# Altium integrated library Wurth_Elektronik_Passive_rev16a.IntLib: 1143 symbols (part 15 of 28)
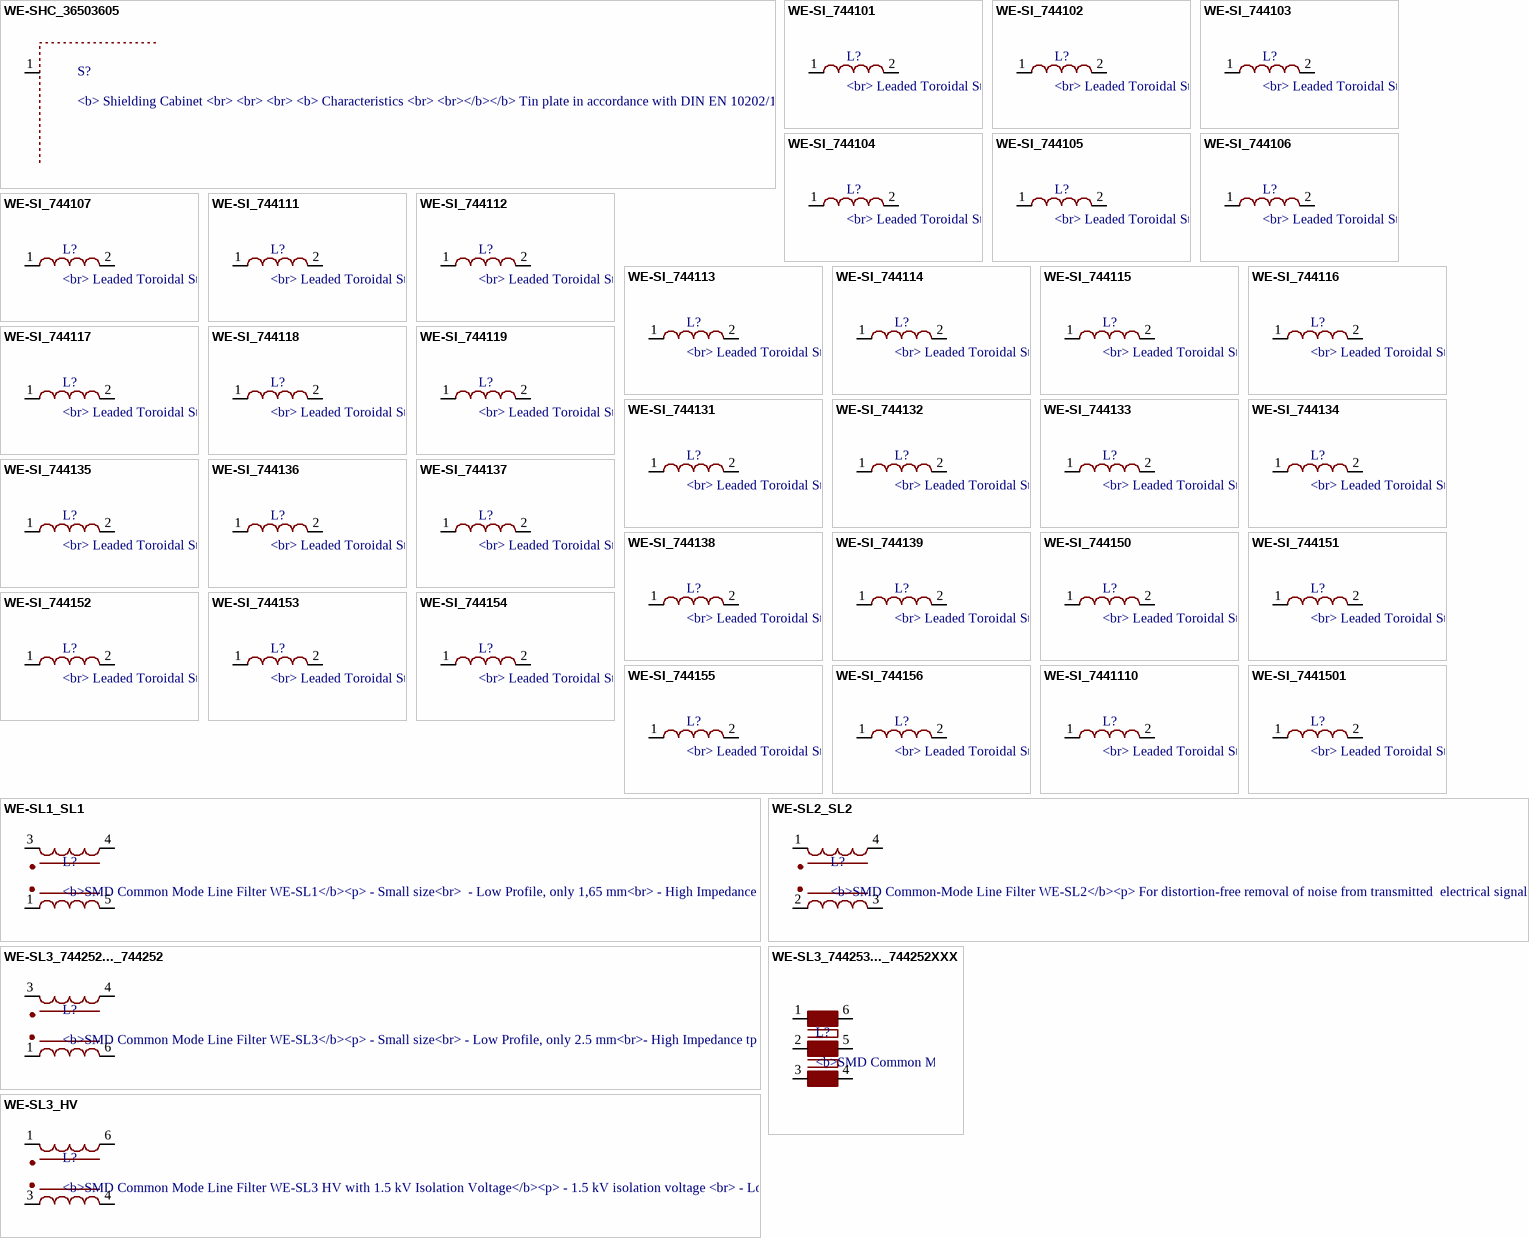
[diagram p72: symbols WE-SHC_36503605 to WE-SL3_HV]

## WE-SI_744151
designator L?, comment <br> Leaded Toroidal Storage Choke / <br> / <br> / <br><b> Characteristics / <br> / <br></b></b> Low magnetic stray field / <br> / <br> Low leakage and minimal noise because of the toroidal core made of iron powder / <br> / <br> Available for rated currents 0.5 A, 1 A, 3 A and 5 A / <br> / <br> Custom designs on request / <br> / <br> / <br><b> Applications / <br> / <br></b> Perfectly suitable for switching regulators from / <br> – Texas Instruments (LM) / <br> – Linear Technology (LT) / <br>– Maxim / <br> / <br> Used for example in switching power supplies and voltage transformers / <br> / <br> Switching regulators up to 100 kHz / <br> / <br> / <br> / <br><a href="http://katalog.we-online.de/media/images/eisos/IndSI_pf2.jpg" title="Enlarge picture"> / <img src="http://katalog.we-online.de/media/images/eisos/IndSI_pf2.jpg" width="320"></a><p> / Details see: <a href="http://katalog.we-online.de/en/pbs/WE-SI/744101">http://katalog.we-online.de/en/pbs/WE-SI/744101</a><p> / </b>Updated  by  Dan Xu 2014-06-10<br> / </b>2014 (C) Wurth Elektronik
footprint WE-SI_744151
pins: 1, 2

## WE-SI_744152
designator L?, comment <br> Leaded Toroidal Storage Choke / <br> / <br> / <br><b> Characteristics / <br> / <br></b></b> Low magnetic stray field / <br> / <br> Low leakage and minimal noise because of the toroidal core made of iron powder / <br> / <br> Available for rated currents 0.5 A, 1 A, 3 A and 5 A / <br> / <br> Custom designs on request / <br> / <br> / <br><b> Applications / <br> / <br></b> Perfectly suitable for switching regulators from / <br> – Texas Instruments (LM) / <br> – Linear Technology (LT) / <br>– Maxim / <br> / <br> Used for example in switching power supplies and voltage transformers / <br> / <br> Switching regulators up to 100 kHz / <br> / <br> / <br> / <br><a href="http://katalog.we-online.de/media/images/eisos/IndSI_pf2.jpg" title="Enlarge picture"> / <img src="http://katalog.we-online.de/media/images/eisos/IndSI_pf2.jpg" width="320"></a><p> / Details see: <a href="http://katalog.we-online.de/en/pbs/WE-SI/744101">http://katalog.we-online.de/en/pbs/WE-SI/744101</a><p> / </b>Updated  by  Dan Xu 2014-06-10<br> / </b>2014 (C) Wurth Elektronik
footprint WE-SI_744152
pins: 1, 2

## WE-SI_744153
designator L?, comment <br> Leaded Toroidal Storage Choke / <br> / <br> / <br><b> Characteristics / <br> / <br></b></b> Low magnetic stray field / <br> / <br> Low leakage and minimal noise because of the toroidal core made of iron powder / <br> / <br> Available for rated currents 0.5 A, 1 A, 3 A and 5 A / <br> / <br> Custom designs on request / <br> / <br> / <br><b> Applications / <br> / <br></b> Perfectly suitable for switching regulators from / <br> – Texas Instruments (LM) / <br> – Linear Technology (LT) / <br>– Maxim / <br> / <br> Used for example in switching power supplies and voltage transformers / <br> / <br> Switching regulators up to 100 kHz / <br> / <br> / <br> / <br><a href="http://katalog.we-online.de/media/images/eisos/IndSI_pf2.jpg" title="Enlarge picture"> / <img src="http://katalog.we-online.de/media/images/eisos/IndSI_pf2.jpg" width="320"></a><p> / Details see: <a href="http://katalog.we-online.de/en/pbs/WE-SI/744101">http://katalog.we-online.de/en/pbs/WE-SI/744101</a><p> / </b>Updated  by  Dan Xu 2014-06-10<br> / </b>2014 (C) Wurth Elektronik
footprint WE-SI_744153
pins: 1, 2

## WE-SI_744154
designator L?, comment <br> Leaded Toroidal Storage Choke / <br> / <br> / <br><b> Characteristics / <br> / <br></b></b> Low magnetic stray field / <br> / <br> Low leakage and minimal noise because of the toroidal core made of iron powder / <br> / <br> Available for rated currents 0.5 A, 1 A, 3 A and 5 A / <br> / <br> Custom designs on request / <br> / <br> / <br><b> Applications / <br> / <br></b> Perfectly suitable for switching regulators from / <br> – Texas Instruments (LM) / <br> – Linear Technology (LT) / <br>– Maxim / <br> / <br> Used for example in switching power supplies and voltage transformers / <br> / <br> Switching regulators up to 100 kHz / <br> / <br> / <br> / <br><a href="http://katalog.we-online.de/media/images/eisos/IndSI_pf2.jpg" title="Enlarge picture"> / <img src="http://katalog.we-online.de/media/images/eisos/IndSI_pf2.jpg" width="320"></a><p> / Details see: <a href="http://katalog.we-online.de/en/pbs/WE-SI/744101">http://katalog.we-online.de/en/pbs/WE-SI/744101</a><p> / </b>Updated  by  Dan Xu 2014-06-10<br> / </b>2014 (C) Wurth Elektronik
footprint WE-SI_744154
pins: 1, 2

## WE-SI_744155
designator L?, comment <br> Leaded Toroidal Storage Choke / <br> / <br> / <br><b> Characteristics / <br> / <br></b></b> Low magnetic stray field / <br> / <br> Low leakage and minimal noise because of the toroidal core made of iron powder / <br> / <br> Available for rated currents 0.5 A, 1 A, 3 A and 5 A / <br> / <br> Custom designs on request / <br> / <br> / <br><b> Applications / <br> / <br></b> Perfectly suitable for switching regulators from / <br> – Texas Instruments (LM) / <br> – Linear Technology (LT) / <br>– Maxim / <br> / <br> Used for example in switching power supplies and voltage transformers / <br> / <br> Switching regulators up to 100 kHz / <br> / <br> / <br> / <br><a href="http://katalog.we-online.de/media/images/eisos/IndSI_pf2.jpg" title="Enlarge picture"> / <img src="http://katalog.we-online.de/media/images/eisos/IndSI_pf2.jpg" width="320"></a><p> / Details see: <a href="http://katalog.we-online.de/en/pbs/WE-SI/744101">http://katalog.we-online.de/en/pbs/WE-SI/744101</a><p> / </b>Updated  by  Dan Xu 2014-06-10<br> / </b>2014 (C) Wurth Elektronik
footprint WE-SI_744155
pins: 1, 2

## WE-SI_744156
designator L?, comment <br> Leaded Toroidal Storage Choke / <br> / <br> / <br><b> Characteristics / <br> / <br></b></b> Low magnetic stray field / <br> / <br> Low leakage and minimal noise because of the toroidal core made of iron powder / <br> / <br> Available for rated currents 0.5 A, 1 A, 3 A and 5 A / <br> / <br> Custom designs on request / <br> / <br> / <br><b> Applications / <br> / <br></b> Perfectly suitable for switching regulators from / <br> – Texas Instruments (LM) / <br> – Linear Technology (LT) / <br>– Maxim / <br> / <br> Used for example in switching power supplies and voltage transformers / <br> / <br> Switching regulators up to 100 kHz / <br> / <br> / <br> / <br><a href="http://katalog.we-online.de/media/images/eisos/IndSI_pf2.jpg" title="Enlarge picture"> / <img src="http://katalog.we-online.de/media/images/eisos/IndSI_pf2.jpg" width="320"></a><p> / Details see: <a href="http://katalog.we-online.de/en/pbs/WE-SI/744101">http://katalog.we-online.de/en/pbs/WE-SI/744101</a><p> / </b>Updated  by  Dan Xu 2014-06-10<br> / </b>2014 (C) Wurth Elektronik
footprint WE-SI_744156
pins: 1, 2

## WE-SI_7441110
designator L?, comment <br> Leaded Toroidal Storage Choke / <br> / <br> / <br><b> Characteristics / <br> / <br></b></b> Low magnetic stray field / <br> / <br> Low leakage and minimal noise because of the toroidal core made of iron powder / <br> / <br> Available for rated currents 0.5 A, 1 A, 3 A and 5 A / <br> / <br> Custom designs on request / <br> / <br> / <br><b> Applications / <br> / <br></b> Perfectly suitable for switching regulators from / <br> – Texas Instruments (LM) / <br> – Linear Technology (LT) / <br>– Maxim / <br> / <br> Used for example in switching power supplies and voltage transformers / <br> / <br> Switching regulators up to 100 kHz / <br> / <br> / <br> / <br><a href="http://katalog.we-online.de/media/images/eisos/IndSI_pf2.jpg" title="Enlarge picture"> / <img src="http://katalog.we-online.de/media/images/eisos/IndSI_pf2.jpg" width="320"></a><p> / Details see: <a href="http://katalog.we-online.de/en/pbs/WE-SI/744101">http://katalog.we-online.de/en/pbs/WE-SI/744101</a><p> / </b>Updated  by  Dan Xu 2014-06-10<br> / </b>2014 (C) Wurth Elektronik
footprint WE-SI_7441110
pins: 1, 2

## WE-SI_7441501
designator L?, comment <br> Leaded Toroidal Storage Choke / <br> / <br> / <br><b> Characteristics / <br> / <br></b></b> Low magnetic stray field / <br> / <br> Low leakage and minimal noise because of the toroidal core made of iron powder / <br> / <br> Available for rated currents 0.5 A, 1 A, 3 A and 5 A / <br> / <br> Custom designs on request / <br> / <br> / <br><b> Applications / <br> / <br></b> Perfectly suitable for switching regulators from / <br> – Texas Instruments (LM) / <br> – Linear Technology (LT) / <br>– Maxim / <br> / <br> Used for example in switching power supplies and voltage transformers / <br> / <br> Switching regulators up to 100 kHz / <br> / <br> / <br> / <br><a href="http://katalog.we-online.de/media/images/eisos/IndSI_pf2.jpg" title="Enlarge picture"> / <img src="http://katalog.we-online.de/media/images/eisos/IndSI_pf2.jpg" width="320"></a><p> / Details see: <a href="http://katalog.we-online.de/en/pbs/WE-SI/744101">http://katalog.we-online.de/en/pbs/WE-SI/744101</a><p> / </b>Updated  by  Dan Xu 2014-06-10<br> / </b>2014 (C) Wurth Elektronik
footprint WE-SI_7441501
pins: 1, 2

## WE-SL1_SL1
designator L?, comment <b>SMD Common Mode Line Filter WE-SL1</b><p> / - Small size<br> / - Low Profile, only 1,65 mm<br> / - High Impedance up to 2000 ohm<br> / - High Current up to 300mA <br> / - Low leakage inductance<br><br> / -- USB<br> / -- CAN<br> / -- Firewire<br> / -- Data Lines<br> / -- Power Lines<br> / <br><a href="http://katalog.we-online.de/media/images/eisos/IndSL1_pf2.jpg" title="Enlarge picture"> / <img src="http://katalog.we-online.de/media/images/eisos/IndSL1_pf2.jpg" width="320"></a><p> / Details see: <a href="http://katalog.we-online.de/en/pbs/WE-SL1?">http://katalog.we-online.de/en/pbs/WE-SL1?1</a><p> / </b>Updated  by  Dan Xu 2014-07-11<br> / </b>2014 (C) Würth Elektronik
footprint WE-SL1
pins: 1 4, 3 1, 4 2, 5 3

## WE-SL2_SL2
designator L?, comment <b>SMD Common-Mode Line Filter WE-SL2</b><p> / For distortion-free removal of noise from transmitted / electrical signals<br> / - Double current-compensated choke<br> / - Offering a wide band width with the core materials NiZn/MnZn<br><br> / -- Current compensated choke for data and signal lines<br> / -- Power supply systems<br> / -- Filter for measurement signals<br> / -- CAN / <br><a href="http://katalog.we-online.de/media/images/eisos/IndSL2_pf2.jpg" title="Enlarge picture"> / <img src="http://katalog.we-online.de/media/images/eisos/IndSL2_pf2.jpg" width="320"></a><p> / Details see: <a href="http://katalog.we-online.de/en/pbs/WE-SL2?">http://katalog.we-online.de/en/pbs/WE-SL2?</a><p> / </b>Updated  by  Dan Xu 2014-07-11<br> / </b>2014 (C) Würth Elektronik
footprint WE-SL2
pins: 1, 2 4, 3, 4 2

## WE-SL3_744252..._744252
designator L?, comment <b>SMD Common Mode Line Filter WE-SL3</b><p> / - Small size<br> - Low Profile, only 2.5 mm<br>- High Impedance tp to 5000 ohm<br>- High Current up to 700mA <br> / - Low leakage inductance<p> / - USB<br> / - CAN<br> / -  Firewire<br> / - Data Lines<br> / - Power Lines<br> / <br><a href="http://katalog.we-online.de/media/images/eisos/IndSL3_pf2.jpg" title="Enlarge picture"> / <img src="http://katalog.we-online.de/media/images/eisos/IndSL3_pf2.jpg" width="320"></a><p> / Details see: <a href="http://katalog.we-online.de/en/pbs/WE-SL3?">http://katalog.we-online.de/en/pbs/WE-SL3?</a><p> / </b>Updated  by  Dan Xu 2014-07-11<br> / </b>2014 (C) Würth Elektronik
footprint WE-SL3_744252...
pins: 1 4, 3 1, 4 2, 6 3

## WE-SL3_744253..._744252XXX
designator L?, comment <b>SMD Common Mode Line Filter WE-SL3</b><p> / - Small size<br> - Low Profile, only 2.5 mm<br>- High Impedance tp to 5000 ohm<br>- High Current up to 700mA <br> / - Low leakage inductance<p> / - USB<br> / - CAN<br> / -  Firewire<br> / - Data Lines<br> / - Power Lines<br> / <br><a href="http://katalog.we-online.de/media/images/eisos/IndSL3_pf2.jpg" title="Enlarge picture"> / <img src="http://katalog.we-online.de/media/images/eisos/IndSL3_pf2.jpg" width="320"></a><p> / Details see: <a href="http://katalog.we-online.de/en/pbs/WE-SL3?">http://katalog.we-online.de/en/pbs/WE-SL3?</a><p> / </b>Updated  by  Dan Xu 2014-07-11<br> / </b>2014 (C) Würth Elektronik
footprint WE-SL3_744253...
pins: 1, 2, 3, 4, 5, 6

## WE-SL3_HV
designator L?, comment <b>SMD Common Mode Line Filter WE-SL3 HV with 1.5 kV Isolation Voltage</b><p> / - 1.5 kV isolation voltage <br> / - Low profile<br> / - Small sinze<br> / - Excellent attenuation characteristics<br><br> / -- 10/100/1000 Base-T<br> / -- xDSL<br> / -- Modem<br> / -- T1/E1<br> / -- ISDN<br> / -- For TNV-circuits
footprint WE-SL3_HV
pins: 1, 3 4, 4 3, 6 2

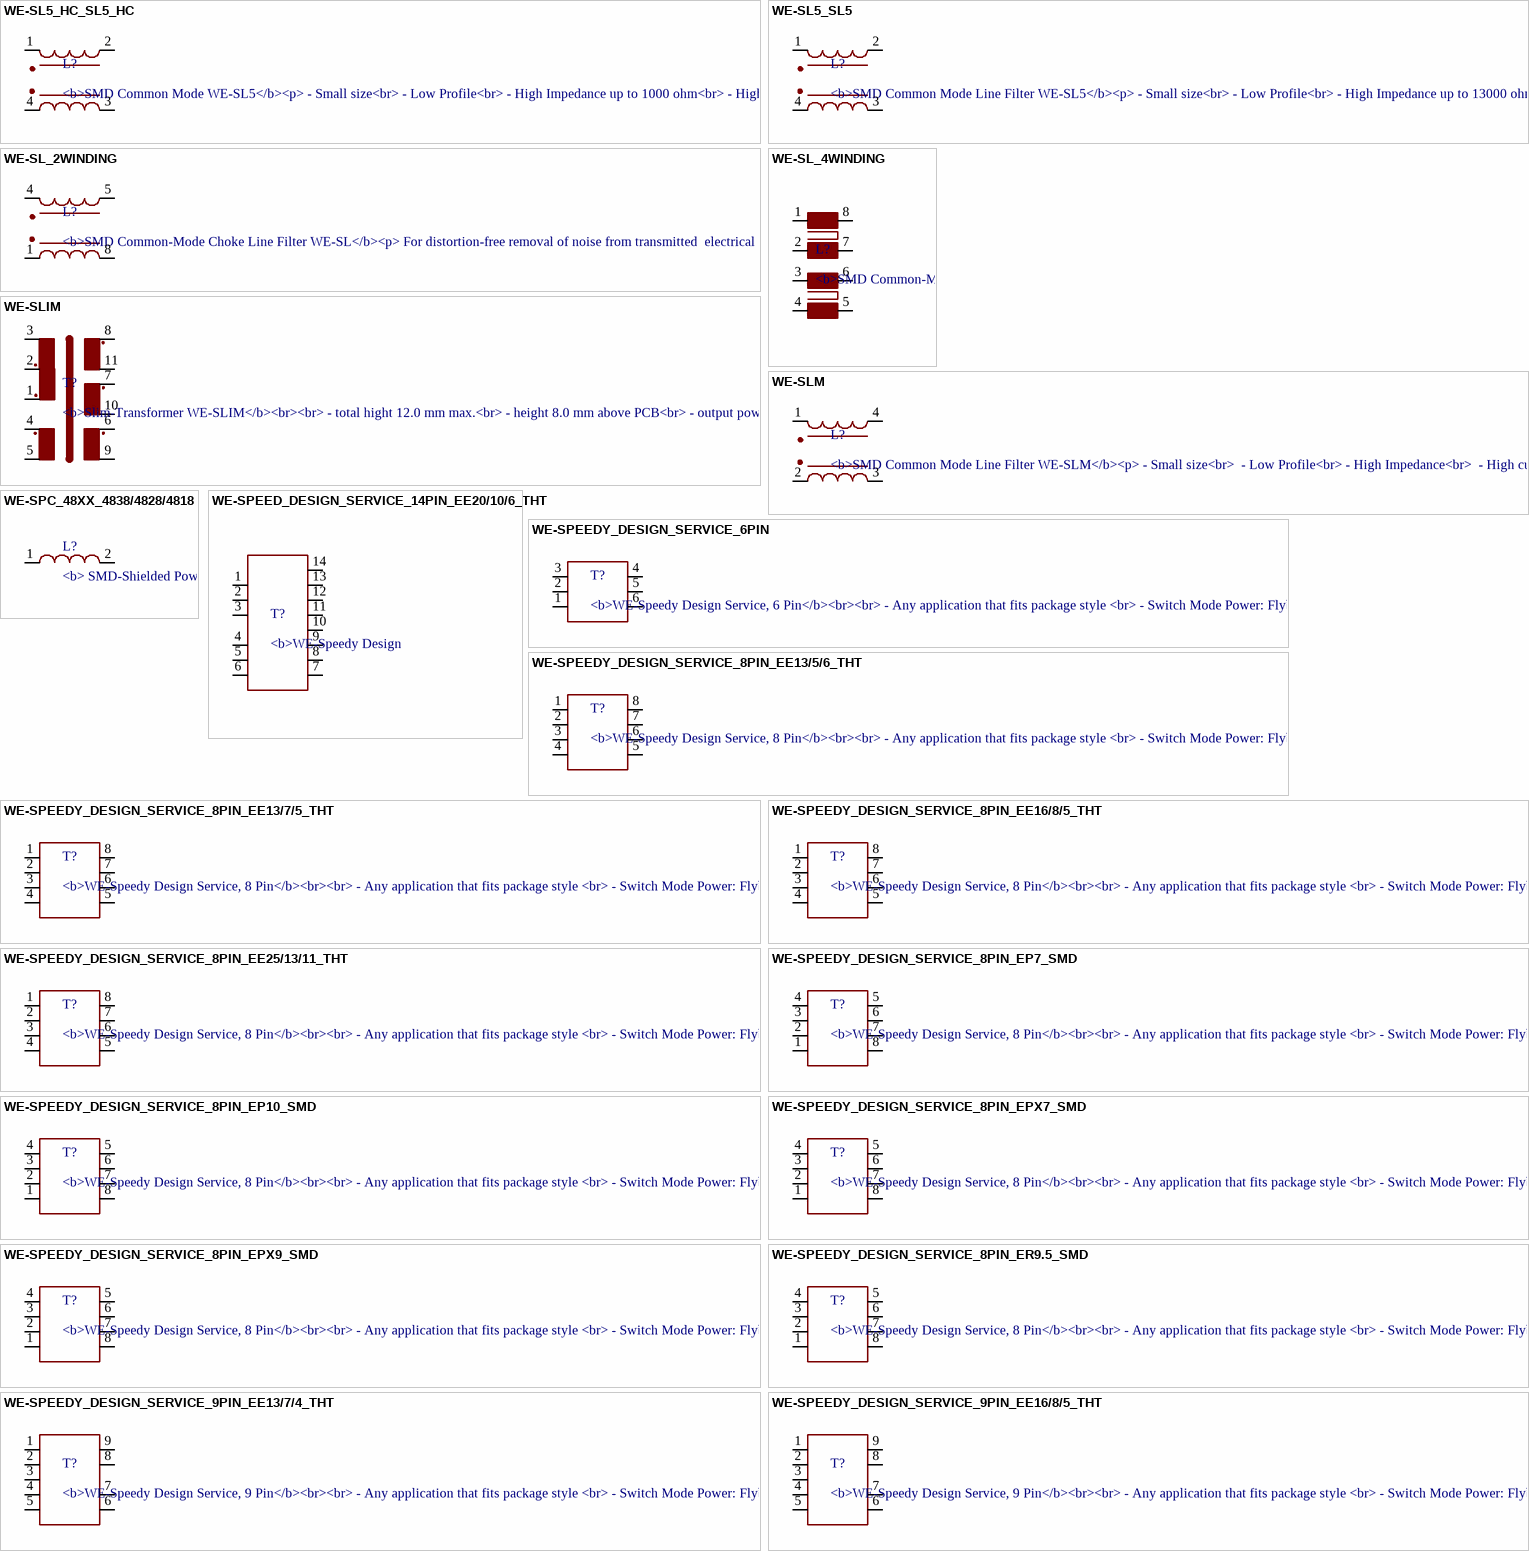
[diagram p44: symbols WE-SL5_HC_SL5_HC to WE-SPEEDY_DESIGN_SERVICE_9PIN_EE16/8/5_THT]

## WE-SL5_HC_SL5_HC
designator L?, comment <b>SMD Common Mode WE-SL5</b><p> / - Small size<br> / - Low Profile<br> / - High Impedance up to 1000 ohm<br> / - High Current up to 5000mA <P> / -- Data Lines<br> / -- Power Lines / <br><a href="http://katalog.we-online.de/media/images/eisos/IndSL5HC_pf2.jpg" title="Enlarge picture"> / <img src="http://katalog.we-online.de/media/images/eisos/IndSL5_pf2.jpg" width="320"></a><p> / Details see: <a href="http://katalog.we-online.de/en/pbs/WE-SL5_HC?">http://katalog.we-online.de/en/pbs/WE-SL5_HC?</a><p> / </b>Updated  by  Dan Xu 2014-07-11<br> / </b>2014 (C) Würth Elektronik
footprint WE-SL5_HC
pins: 1, 2, 3, 4

## WE-SL5_SL5
designator L?, comment <b>SMD Common Mode Line Filter WE-SL5</b><p> / - Small size<br> / - Low Profile<br> / - High Impedance up to 13000 ohm<br> / - High Current up to 2500mA <P> / -- Data Lines<br> / -- Power Lines / <br><a href="http://katalog.we-online.de/media/images/eisos/IndSL5_pf2.jpg" title="Enlarge picture"> / <img src="http://katalog.we-online.de/media/images/eisos/IndSL5_pf2.jpg" width="320"></a><p> / Details see: <a href="http://katalog.we-online.de/en/pbs/WE-SL5?">http://katalog.we-online.de/en/pbs/WE-SL5?</a><p> / </b>Updated  by  Dan Xu 2014-07-11<br> / </b>2014 (C) Würth Elektronik
footprint WE-SL5
pins: 1, 2, 3, 4

## WE-SL_2WINDING
designator L?, comment <b>SMD Common-Mode Choke Line Filter WE-SL</b><p> / For distortion-free removal of noise from transmitted / electrical signals<br> / - 2 or 4 winding configuration<br> / - Offering a wide band width with the core materials of NiZn and MnZn<br><br> / -- Current compensated choke for data and signal lines<br> / -- USB/CAN/ISDN-Bus<br> / -- Power supply systems<br> / -- Control lines<br> / -- LAN, PBX, cable TV, CD-ROM, 8mm video, etc. / <br><a href="http://katalog.we-online.de/media/images/eisos/IndSL_pf2.jpg" title="Enlarge picture"> / <img src="http://katalog.we-online.de/media/images/eisos/IndSL_pf2.jpg" width="320"></a><p> / Details see: <a href="http://katalog.we-online.de/en/pbs/WE-SL?">http://katalog.we-online.de/en/pbs/WE-SL?</a><p> / </b>Updated  by  Dan Xu 2014-07-11<br> / </b>2014 (C) Würth Elektronik
footprint WE-SL_2WINDING
pins: 1 4, 4 1, 5 2, 8 3

## WE-SL_4WINDING
designator L?, comment <b>SMD Common-Mode Choke Line Filter WE-SL</b><p> / For distortion-free removal of noise from transmitted / electrical signals<br> / - 2 or 4 winding configuration<br> / - Offering a wide band width with the core materials of NiZn and MnZn<br><br> / -- Current compensated choke for data and signal lines<br> / -- USB/CAN/ISDN-Bus<br> / -- Power supply systems<br> / -- Control lines<br> / -- LAN, PBX, cable TV, CD-ROM, 8mm video, etc. / <br><a href="http://katalog.we-online.de/media/images/eisos/IndSL_pf2.jpg" title="Enlarge picture"> / <img src="http://katalog.we-online.de/media/images/eisos/IndSL_pf2.jpg" width="320"></a><p> / Details see: <a href="http://katalog.we-online.de/en/pbs/WE-SL?">http://katalog.we-online.de/en/pbs/WE-SL?</a><p> / </b>Updated  by  Dan Xu 2014-07-11<br> / </b>2014 (C) Würth Elektronik
footprint WE-SL_4WINDING
pins: 1, 2, 3, 4, 5, 6, 7, 8

## WE-SLIM
designator T?, comment <b>Slim-Transformer WE-SLIM</b><br><br> / - total hight 12.0 mm max.<br> / - height 8.0 mm above PCB<br> / - output power 65W<br><br> / -- offline switch mode power supplies<br> / -- TV<br> / -- devices with heigh issues / <br><a href="http://katalog.we-online.de/media/images/ctm/UtSLIM_pf2.jpg" title="Enlarge picture"> / <img src="http://katalog.we-online.de/media/images/ctm/UtSLIM_pf2.jpg" width="320"></a><p> / Details see: <a href="http://katalog.we-online.de/en/ctm/MID-SLIM?">http://katalog.we-online.de/en/ctm/MID-SLIM?</a><p> / </b>Updated  by  Dan Xu 2014-07-11<br> / </b>2014 (C) Würth Elektronik
footprint WE_LEP28/11.2_6PIN
pins: 1, 2, 3, 4, 5, 6, 7, 8, 9, 10, 11

## WE-SLM
designator L?, comment <b>SMD Common Mode Line Filter WE-SLM</b><p> / - Small size<br> / - Low Profile<br> / - High Impedance<br> / - High current capability up to 300 mA<p> / -- USB<br> / -- CAN<br> / -- Firewire<br> / -- Data Lines<br> / -- Power supply systems<br> / -- Signal Lines / <br><a href="http://katalog.we-online.de/media/images/eisos/IndSLM_pf2.jpg" title="Enlarge picture"> / <img src="http://katalog.we-online.de/media/images/eisos/IndSLM_pf2.jpg" width="320"></a><p> / Details see: <a href="http://katalog.we-online.de/en/pbs/WE-SLM??">http://katalog.we-online.de/en/pbs/WE-SLM??</a><p> / </b>Updated  by  Dan Xu 2014-07-11<br> / </b>2014 (C) Würth Elektronik
footprint WE-SLM
pins: 1, 2 4, 3, 4 2

## WE-SPC_48XX_4838/4828/4818
designator L?, comment <b> SMD-Shielded Power Inductor  WE-SPC / <br><a href="http://katalog.we-online.de/media/images/eisos/IndSPC_pf2.jpg" title="Enlarge picture"> / <img src="http://katalog.we-online.de/media/images/eisos/IndSPC_pf2.jpg" width="320"></a><p> / Details see: <a href="http://katalog.we-online.de/en/pbs/WE-SPC?">http://katalog.we-online.de/en/pbs/WE-SPC?</a><p> / </b>Updated  by  Dan Xu 2014-07-11<br> / </b>2014 (C) Würth Elektronik
footprint WE-SPC_48XX
pins: 1, 2

## WE-SPEED_DESIGN_SERVICE_14PIN_EE20/10/6_THT
designator T?, comment <b>WE-Speedy Design Service, 14 Pin</b><br><br> / - Any application that fits package style <br> / - Switch Mode Power: Flyback, Forward, Push-Pull, Coupled Inductor<br><br> / -- Telecom Applications: xDSL, POTS Splitter Inductors
footprint WE_EE20/10/6_THT_HORIZONTAL_14PIN
pins: 1, 2, 3, 4, 5, 6, 7, 8, 9, 10, 11, 12, 13, 14

## WE-SPEEDY_DESIGN_SERVICE_6PIN
designator T?, comment <b>WE-Speedy Design Service, 6 Pin</b><br><br> / - Any application that fits package style <br> / - Switch Mode Power: Flyback, Forward, Push-Pull, Coupled Inductor<br><br> / -- Telecom Applications: xDSL, POTS Splitter Inductors
footprint WE_EP5_SMD_6PIN
pins: 1, 2, 3, 4, 5, 6

## WE-SPEEDY_DESIGN_SERVICE_8PIN_EE13/5/6_THT
designator T?, comment <b>WE-Speedy Design Service, 8 Pin</b><br><br> / - Any application that fits package style <br> / - Switch Mode Power: Flyback, Forward, Push-Pull, Coupled Inductor<br><br> / -- Telecom Applications: xDSL, POTS Splitter Inductors
footprint WE_EE13/5/6_HORIZONTAL_8PIN
pins: 1 4, 2 3, 3 2, 4 1, 5 8, 6 7, 7 6, 8 5

## WE-SPEEDY_DESIGN_SERVICE_8PIN_EE13/7/5_THT
designator T?, comment <b>WE-Speedy Design Service, 8 Pin</b><br><br> / - Any application that fits package style <br> / - Switch Mode Power: Flyback, Forward, Push-Pull, Coupled Inductor<br><br> / -- Telecom Applications: xDSL, POTS Splitter Inductors
footprint WE_EE13/7/4_HORIZONTAL_8PIN
pins: 1 4, 2 3, 3 2, 4 1, 5 8, 6 7, 7 6, 8 5

## WE-SPEEDY_DESIGN_SERVICE_8PIN_EE16/8/5_THT
designator T?, comment <b>WE-Speedy Design Service, 8 Pin</b><br><br> / - Any application that fits package style <br> / - Switch Mode Power: Flyback, Forward, Push-Pull, Coupled Inductor<br><br> / -- Telecom Applications: xDSL, POTS Splitter Inductors
footprint WE_EE16/8/5_THT_HORIZONTAL_8PIN
pins: 1 4, 2 3, 3 2, 4 1, 5 8, 6 7, 7 6, 8 5

## WE-SPEEDY_DESIGN_SERVICE_8PIN_EE25/13/11_THT
designator T?, comment <b>WE-Speedy Design Service, 8 Pin</b><br><br> / - Any application that fits package style <br> / - Switch Mode Power: Flyback, Forward, Push-Pull, Coupled Inductor<br><br> / -- Telecom Applications: xDSL, POTS Splitter Inductors
footprint WE_EE25/13/11_THT_VERTICAL_8PIN
pins: 1 4, 2 3, 3 2, 4 1, 5 8, 6 7, 7 6, 8 5

## WE-SPEEDY_DESIGN_SERVICE_8PIN_EP7_SMD
designator T?, comment <b>WE-Speedy Design Service, 8 Pin</b><br><br> / - Any application that fits package style <br> / - Switch Mode Power: Flyback, Forward, Push-Pull, Coupled Inductor<br><br> / -- Telecom Applications: xDSL, POTS Splitter Inductors
footprint WE_EP7_SMD_8PIN
pins: 1, 2, 3, 4, 5, 6, 7, 8

## WE-SPEEDY_DESIGN_SERVICE_8PIN_EP10_SMD
designator T?, comment <b>WE-Speedy Design Service, 8 Pin</b><br><br> / - Any application that fits package style <br> / - Switch Mode Power: Flyback, Forward, Push-Pull, Coupled Inductor<br><br> / -- Telecom Applications: xDSL, POTS Splitter Inductors
footprint WE_EP10_SMD_8PIN
pins: 1, 2, 3, 4, 5, 6, 7, 8

## WE-SPEEDY_DESIGN_SERVICE_8PIN_EPX7_SMD
designator T?, comment <b>WE-Speedy Design Service, 8 Pin</b><br><br> / - Any application that fits package style <br> / - Switch Mode Power: Flyback, Forward, Push-Pull, Coupled Inductor<br><br> / -- Telecom Applications: xDSL, POTS Splitter Inductors
footprint WE_EPX7_SMD_8PIN
pins: 1, 2, 3, 4, 5, 6, 7, 8

## WE-SPEEDY_DESIGN_SERVICE_8PIN_EPX9_SMD
designator T?, comment <b>WE-Speedy Design Service, 8 Pin</b><br><br> / - Any application that fits package style <br> / - Switch Mode Power: Flyback, Forward, Push-Pull, Coupled Inductor<br><br> / -- Telecom Applications: xDSL, POTS Splitter Inductors
footprint WE_EPX9_SMD_8PIN
pins: 1, 2, 3, 4, 5, 6, 7, 8

## WE-SPEEDY_DESIGN_SERVICE_8PIN_ER9.5_SMD
designator T?, comment <b>WE-Speedy Design Service, 8 Pin</b><br><br> / - Any application that fits package style <br> / - Switch Mode Power: Flyback, Forward, Push-Pull, Coupled Inductor<br><br> / -- Telecom Applications: xDSL, POTS Splitter Inductors
footprint WE_ER9.5_SMD_8PIN
pins: 1, 2, 3, 4, 5, 6, 7, 8

## WE-SPEEDY_DESIGN_SERVICE_9PIN_EE13/7/4_THT
designator T?, comment <b>WE-Speedy Design Service, 9 Pin</b><br><br> / - Any application that fits package style <br> / - Switch Mode Power: Flyback, Forward, Push-Pull, Coupled Inductor<br><br> / -- Telecom Applications: xDSL, POTS Splitter Inductors
footprint WE_E13/7/4_THT_HORIZONTAL_9PIN
pins: 1 5, 2 4, 3, 4 2, 5 1, 6 9, 7 8, 8 7, 9 6

## WE-SPEEDY_DESIGN_SERVICE_9PIN_EE16/8/5_THT
designator T?, comment <b>WE-Speedy Design Service, 9 Pin</b><br><br> / - Any application that fits package style <br> / - Switch Mode Power: Flyback, Forward, Push-Pull, Coupled Inductor<br><br> / -- Telecom Applications: xDSL, POTS Splitter Inductors
footprint WE_EE16/8/5_THT_HORIZONTAL_9PIN
pins: 1 5, 2 4, 3, 4 2, 5 1, 6 9, 7 8, 8 7, 9 6

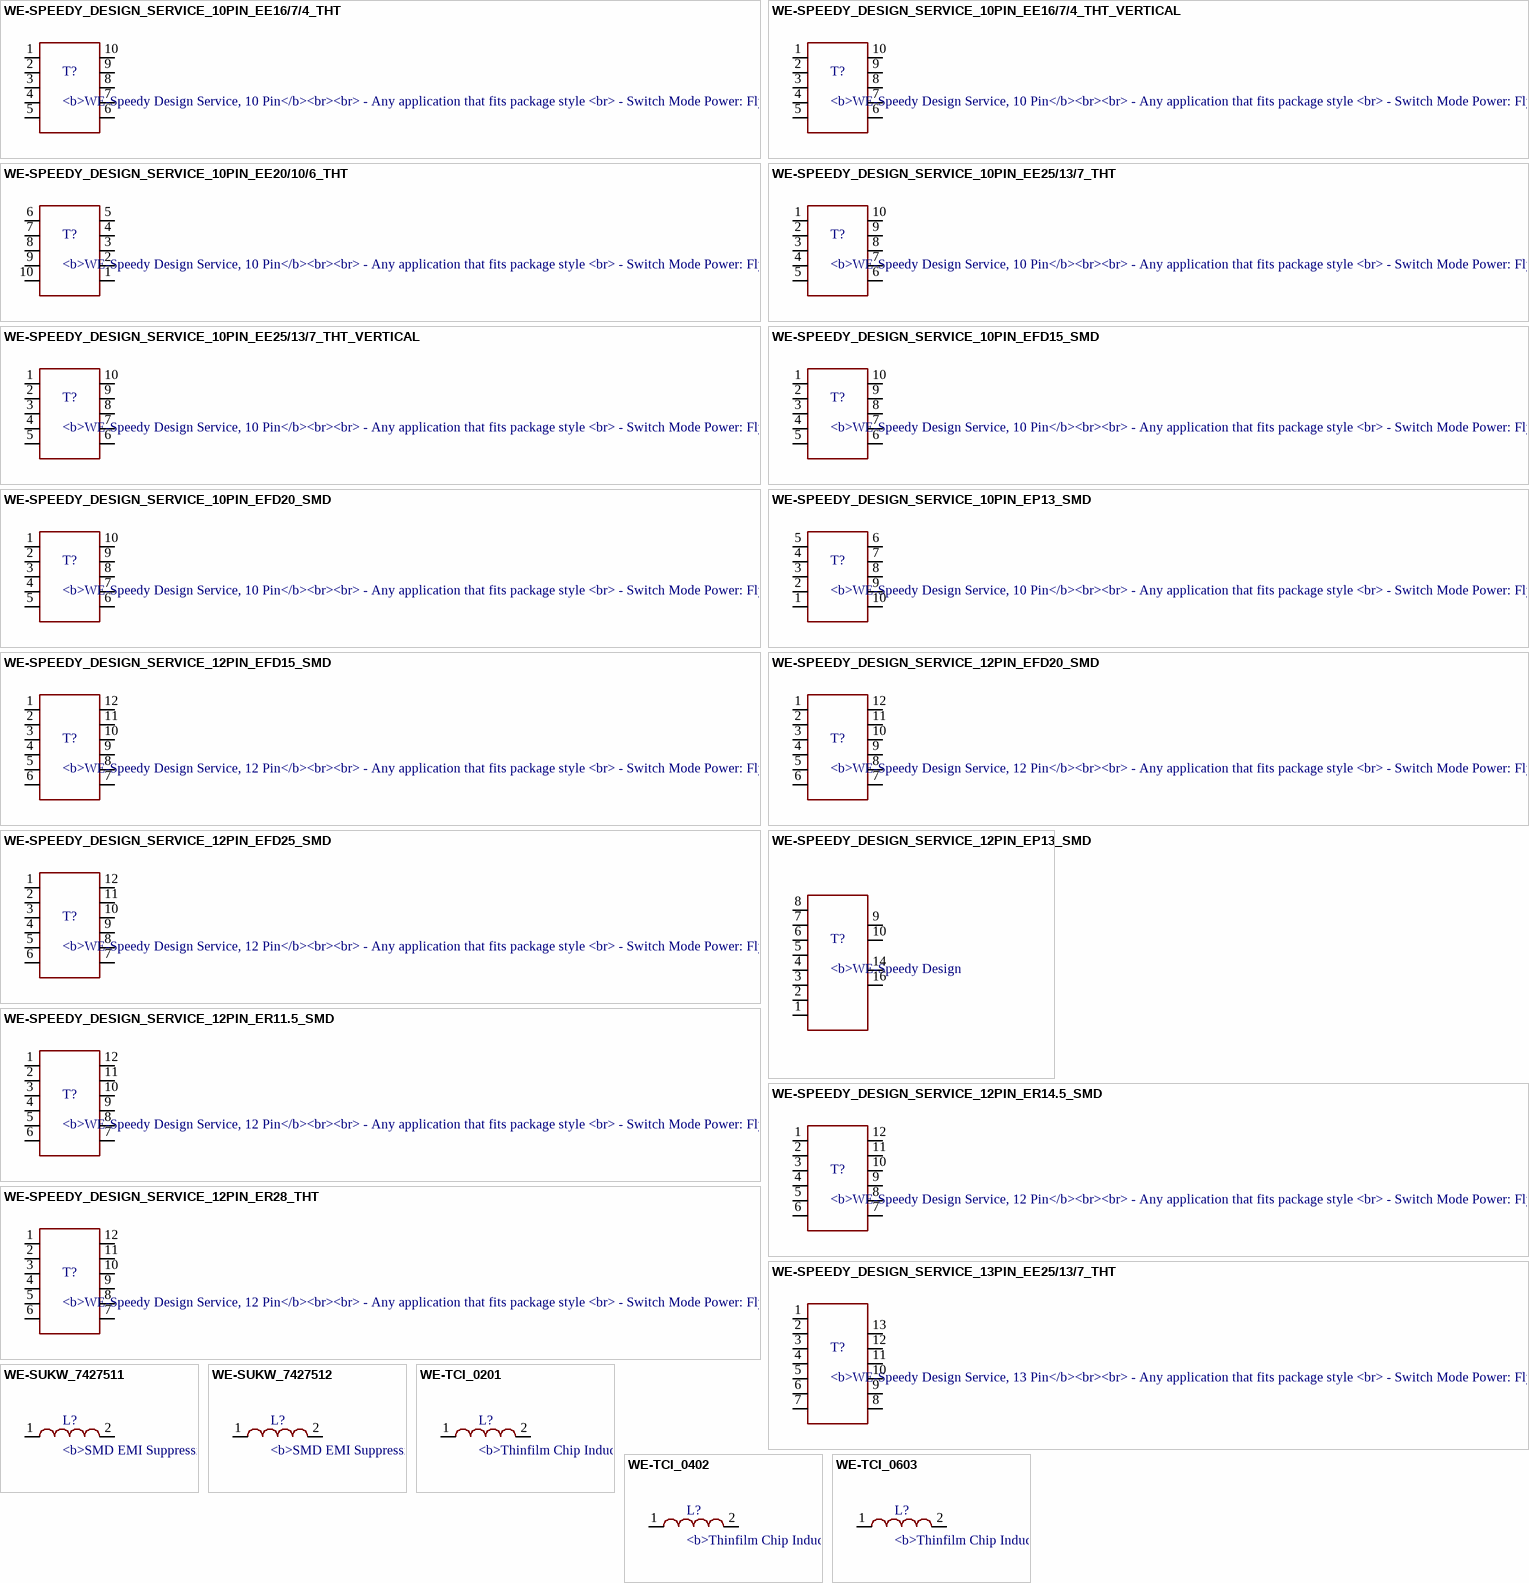
[diagram p45: symbols WE-SPEEDY_DESIGN_SERVICE_10PIN_EE16/7/4_THT to WE-TCI_0603]

## WE-SPEEDY_DESIGN_SERVICE_10PIN_EE16/7/4_THT
designator T?, comment <b>WE-Speedy Design Service, 10 Pin</b><br><br> / - Any application that fits package style <br> / - Switch Mode Power: Flyback, Forward, Push-Pull, Coupled Inductor<br><br> / -- Telecom Applications: xDSL, POTS Splitter Inductors
footprint WE_EE16/7/4_THT_HORIZONTAL_10PIN
pins: 1, 2, 3, 4, 5, 6, 7, 8, 9, 10

## WE-SPEEDY_DESIGN_SERVICE_10PIN_EE16/7/4_THT_VERTICAL
designator T?, comment <b>WE-Speedy Design Service, 10 Pin</b><br><br> / - Any application that fits package style <br> / - Switch Mode Power: Flyback, Forward, Push-Pull, Coupled Inductor<br><br> / -- Telecom Applications: xDSL, POTS Splitter Inductors
footprint WE_E16/7/4_THT_VERTIKAL_10PIN
pins: 1, 2, 3, 4, 5, 6, 7, 8, 9, 10

## WE-SPEEDY_DESIGN_SERVICE_10PIN_EE20/10/6_THT
designator T?, comment <b>WE-Speedy Design Service, 10 Pin</b><br><br> / - Any application that fits package style <br> / - Switch Mode Power: Flyback, Forward, Push-Pull, Coupled Inductor<br><br> / -- Telecom Applications: xDSL, POTS Splitter Inductors
footprint WE_EE20/10/6_THT_HORIZONTAL_10PIN
pins: 1 6, 2 7, 3 8, 4 9, 5 10, 6 1, 7 2, 8 3, 9 4, 10 5

## WE-SPEEDY_DESIGN_SERVICE_10PIN_EE25/13/7_THT
designator T?, comment <b>WE-Speedy Design Service, 10 Pin</b><br><br> / - Any application that fits package style <br> / - Switch Mode Power: Flyback, Forward, Push-Pull, Coupled Inductor<br><br> / -- Telecom Applications: xDSL, POTS Splitter Inductors
footprint WE_EE25/13/7_THT_HORIZONTAL_10PIN
pins: 1, 2, 3, 4, 5, 6, 7, 8, 9, 10

## WE-SPEEDY_DESIGN_SERVICE_10PIN_EE25/13/7_THT_VERTICAL
designator T?, comment <b>WE-Speedy Design Service, 10 Pin</b><br><br> / - Any application that fits package style <br> / - Switch Mode Power: Flyback, Forward, Push-Pull, Coupled Inductor<br><br> / -- Telecom Applications: xDSL, POTS Splitter Inductors
footprint WE_EE25/13/7_THT_VERTICAL_10PIN
pins: 1, 2, 3, 4, 5, 6, 7, 8, 9, 10

## WE-SPEEDY_DESIGN_SERVICE_10PIN_EFD15_SMD
designator T?, comment <b>WE-Speedy Design Service, 10 Pin</b><br><br> / - Any application that fits package style <br> / - Switch Mode Power: Flyback, Forward, Push-Pull, Coupled Inductor<br><br> / -- Telecom Applications: xDSL, POTS Splitter Inductors
footprint WE_EFD15_SMD_10PIN
pins: 1, 2, 3, 4, 5, 6, 7, 8, 9, 10

## WE-SPEEDY_DESIGN_SERVICE_10PIN_EFD20_SMD
designator T?, comment <b>WE-Speedy Design Service, 10 Pin</b><br><br> / - Any application that fits package style <br> / - Switch Mode Power: Flyback, Forward, Push-Pull, Coupled Inductor<br><br> / -- Telecom Applications: xDSL, POTS Splitter Inductors
footprint WE_EFD20_SMD_10PIN
pins: 1, 2, 3, 4, 5, 6, 7, 8, 9, 10

## WE-SPEEDY_DESIGN_SERVICE_10PIN_EP13_SMD
designator T?, comment <b>WE-Speedy Design Service, 10 Pin</b><br><br> / - Any application that fits package style <br> / - Switch Mode Power: Flyback, Forward, Push-Pull, Coupled Inductor<br><br> / -- Telecom Applications: xDSL, POTS Splitter Inductors
footprint WE_EP13_SMD_10PIN
pins: 1 5, 2 4, 3, 4 2, 5 1, 6 10, 7 9, 8, 9 7, 10 6

## WE-SPEEDY_DESIGN_SERVICE_12PIN_EFD15_SMD
designator T?, comment <b>WE-Speedy Design Service, 12 Pin</b><br><br> / - Any application that fits package style <br> / - Switch Mode Power: Flyback, Forward, Push-Pull, Coupled Inductor<br><br> / -- Telecom Applications: xDSL, POTS Splitter Inductors
footprint WE_EFD15_SMD_12PIN
pins: 1, 2, 3, 4, 5, 6, 7, 8, 9, 10, 11, 12

## WE-SPEEDY_DESIGN_SERVICE_12PIN_EFD20_SMD
designator T?, comment <b>WE-Speedy Design Service, 12 Pin</b><br><br> / - Any application that fits package style <br> / - Switch Mode Power: Flyback, Forward, Push-Pull, Coupled Inductor<br><br> / -- Telecom Applications: xDSL, POTS Splitter Inductors
footprint WE_EFD20_SMD_12PIN
pins: 1, 2, 3, 4, 5, 6, 7, 8, 9, 10, 11, 12

## WE-SPEEDY_DESIGN_SERVICE_12PIN_EFD25_SMD
designator T?, comment <b>WE-Speedy Design Service, 12 Pin</b><br><br> / - Any application that fits package style <br> / - Switch Mode Power: Flyback, Forward, Push-Pull, Coupled Inductor<br><br> / -- Telecom Applications: xDSL, POTS Splitter Inductors
footprint WE_EFD25_SMD_12PIN
pins: 1, 2, 3, 4, 5, 6, 7, 8, 9, 10, 11, 12

## WE-SPEEDY_DESIGN_SERVICE_12PIN_EP13_SMD
designator T?, comment <b>WE-Speedy Design Service, 12 Pin</b><br><br> / - Any application that fits package style <br> / - Switch Mode Power: Flyback, Forward, Push-Pull, Coupled Inductor<br><br> / -- Telecom Applications: xDSL, POTS Splitter Inductors
footprint WE_EP13_SMD_12PIN
pins: 1, 2, 3, 4, 5, 6, 7, 8, 9, 10, 14 11, 16 12

## WE-SPEEDY_DESIGN_SERVICE_12PIN_ER11.5_SMD
designator T?, comment <b>WE-Speedy Design Service, 12 Pin</b><br><br> / - Any application that fits package style <br> / - Switch Mode Power: Flyback, Forward, Push-Pull, Coupled Inductor<br><br> / -- Telecom Applications: xDSL, POTS Splitter Inductors
footprint WE_ER11.5_SMD_12PIN
pins: 1, 2, 3, 4, 5, 6, 7, 8, 9, 10, 11, 12

## WE-SPEEDY_DESIGN_SERVICE_12PIN_ER14.5_SMD
designator T?, comment <b>WE-Speedy Design Service, 12 Pin</b><br><br> / - Any application that fits package style <br> / - Switch Mode Power: Flyback, Forward, Push-Pull, Coupled Inductor<br><br> / -- Telecom Applications: xDSL, POTS Splitter Inductors
footprint WE_ER14.5_SMD_12PIN
pins: 1, 2, 3, 4, 5, 6, 7, 8, 9, 10, 11, 12

## WE-SPEEDY_DESIGN_SERVICE_12PIN_ER28_THT
designator T?, comment <b>WE-Speedy Design Service, 12 Pin</b><br><br> / - Any application that fits package style <br> / - Switch Mode Power: Flyback, Forward, Push-Pull, Coupled Inductor<br><br> / -- Telecom Applications: xDSL, POTS Splitter Inductors
footprint WE_ER28_THT_HORIZONTAL_12PIN
pins: 1, 2, 3, 4, 5, 6, 7, 8, 9, 10, 11, 12

## WE-SPEEDY_DESIGN_SERVICE_13PIN_EE25/13/7_THT
designator T?, comment <b>WE-Speedy Design Service, 13 Pin</b><br><br> / - Any application that fits package style <br> / - Switch Mode Power: Flyback, Forward, Push-Pull, Coupled Inductor<br><br> / -- Telecom Applications: xDSL, POTS Splitter Inductors
footprint WE_EE25/13/7_THT_HORIZONTAL_13PIN
pins: 1, 2, 3, 4, 5, 6, 7, 8, 9, 10, 11, 12, 13

## WE-SUKW_7427511
designator L?, comment <b>SMD EMI Suppression 5-Hole Ferrite Bead / <br> / <br> / <br><b> Characteristics / <br> / <br></b></b> Impedance up to 580 Ω / <br> / <br> SMD version for an easy installation on the PCB / <br> / <br> Special NiSn pad for improved soldering results / <br> / <br> Operating temperature: –40 ºC to +125 ºC / <br> / <br> / <br><b> Applications / <br> / <br></b> Protection against radio frequency interferences of components on PCB’s of PC’s, text processing and other digital devices / <br> / <br> Typical in power supply / <br> / <br> Power electronics / <br> / <br> / <br> / <br><a href="http://katalog.we-online.de/media/images/eisos/IndSPC_pf2.jpg" title="Enlarge picture"> / <img src="http://katalog.we-online.de/media/images/eisos/FeSUKW_pf2.jpg" width="320"></a><p> / Details see: <a href="http://katalog.we-online.de/en/pbs/WE-SUKW?">http://katalog.we-online.de/en/pbs/WE-SUKW?</a><p> / </b>Updated  by  Dan Xu 2014-07-11<br> / </b>2014 (C) Wurth Elektronik
footprint WE-SUKW_7427511
pins: 1, 2

## WE-SUKW_7427512
designator L?, comment <b>SMD EMI Suppression 5-Hole Ferrite Bead / <br> / <br> / <br><b> Characteristics / <br> / <br></b></b> Impedance up to 580 Ω / <br> / <br> SMD version for an easy installation on the PCB / <br> / <br> Special NiSn pad for improved soldering results / <br> / <br> Operating temperature: –40 ºC to +125 ºC / <br> / <br> / <br><b> Applications / <br> / <br></b> Protection against radio frequency interferences of components on PCB’s of PC’s, text processing and other digital devices / <br> / <br> Typical in power supply / <br> / <br> Power electronics / <br> / <br> / <br> / <br><a href="http://katalog.we-online.de/media/images/eisos/IndSPC_pf2.jpg" title="Enlarge picture"> / <img src="http://katalog.we-online.de/media/images/eisos/FeSUKW_pf2.jpg" width="320"></a><p> / Details see: <a href="http://katalog.we-online.de/en/pbs/WE-SUKW?">http://katalog.we-online.de/en/pbs/WE-SUKW?</a><p> / </b>Updated  by  Dan Xu 2014-07-11<br> / </b>2014 (C) Wurth Elektronik
footprint WE-SUKW_7427512
pins: 1, 2

## WE-TCI_0201
designator L?, comment <b>Thinfilm Chip Inductor / <br> / <br> / <br><b> Characteristics / <br> / <br></b></b> High self resonant frequency / <br> / <br> Tight tolerances of 2% (1% on request) or ± 0.1 nH and small inductance values / <br> / <br> Outstanding temperature stability / <br> / <br> In high frequency circuit the inductance is very stable / <br> / <br> Small inductance values / <br> / <br> Operating temperature: –40 ºC to +125 ºC / <br> / <br> / <br><b>Applications / <br> / <br></b> Mobile phone / <br> / <br> Pagers / <br> / <br> GPS products / <br> / <br> Wireless LAN / <br> / <br> Communication appliances / <br> / <br> RF Transceiver Module / <br> / <br> / <br> / <br><a href="http://katalog.we-online.de/media/images/eisos/RfTCI_pf2.jpg" title="Enlarge picture"> / <img src="http://katalog.we-online.de/media/images/eisos/RfTCI_pf2.jpg" width="320"></a><p> / Details see: <a href="http://katalog.we-online.de/en/pbs/WE-TCI?">http://katalog.we-online.de/en/pbs/WE-TCI?</a><p> / </b>Updated  by  Dan Xu 2014-07-11<br> / </b>2014 (C) Wurth Elektronik
footprint WE-TCI_0201
pins: 1, 2

## WE-TCI_0402
designator L?, comment <b>Thinfilm Chip Inductor / <br> / <br> / <br><b> Characteristics / <br> / <br></b></b> High self resonant frequency / <br> / <br> Tight tolerances of 2% (1% on request) or ± 0.1 nH and small inductance values / <br> / <br> Outstanding temperature stability / <br> / <br> In high frequency circuit the inductance is very stable / <br> / <br> Small inductance values / <br> / <br> Operating temperature: –40 ºC to +125 ºC / <br> / <br> / <br><b>Applications / <br> / <br></b> Mobile phone / <br> / <br> Pagers / <br> / <br> GPS products / <br> / <br> Wireless LAN / <br> / <br> Communication appliances / <br> / <br> RF Transceiver Module / <br> / <br> / <br> / <br><a href="http://katalog.we-online.de/media/images/eisos/RfTCI_pf2.jpg" title="Enlarge picture"> / <img src="http://katalog.we-online.de/media/images/eisos/RfTCI_pf2.jpg" width="320"></a><p> / Details see: <a href="http://katalog.we-online.de/en/pbs/WE-TCI?">http://katalog.we-online.de/en/pbs/WE-TCI?</a><p> / </b>Updated  by  Dan Xu 2014-07-11<br> / </b>2014 (C) Wurth Elektronik
footprint WE-TCI_0402
pins: 1, 2

## WE-TCI_0603
designator L?, comment <b>Thinfilm Chip Inductor / <br> / <br> / <br><b> Characteristics / <br> / <br></b></b> High self resonant frequency / <br> / <br> Tight tolerances of 2% (1% on request) or ± 0.1 nH and small inductance values / <br> / <br> Outstanding temperature stability / <br> / <br> In high frequency circuit the inductance is very stable / <br> / <br> Small inductance values / <br> / <br> Operating temperature: –40 ºC to +125 ºC / <br> / <br> / <br><b>Applications / <br> / <br></b> Mobile phone / <br> / <br> Pagers / <br> / <br> GPS products / <br> / <br> Wireless LAN / <br> / <br> Communication appliances / <br> / <br> RF Transceiver Module / <br> / <br> / <br> / <br><a href="http://katalog.we-online.de/media/images/eisos/RfTCI_pf2.jpg" title="Enlarge picture"> / <img src="http://katalog.we-online.de/media/images/eisos/RfTCI_pf2.jpg" width="320"></a><p> / Details see: <a href="http://katalog.we-online.de/en/pbs/WE-TCI?">http://katalog.we-online.de/en/pbs/WE-TCI?</a><p> / </b>Updated  by  Dan Xu 2014-07-11<br> / </b>2014 (C) Wurth Elektronik
footprint WE-TCI_0603
pins: 1, 2

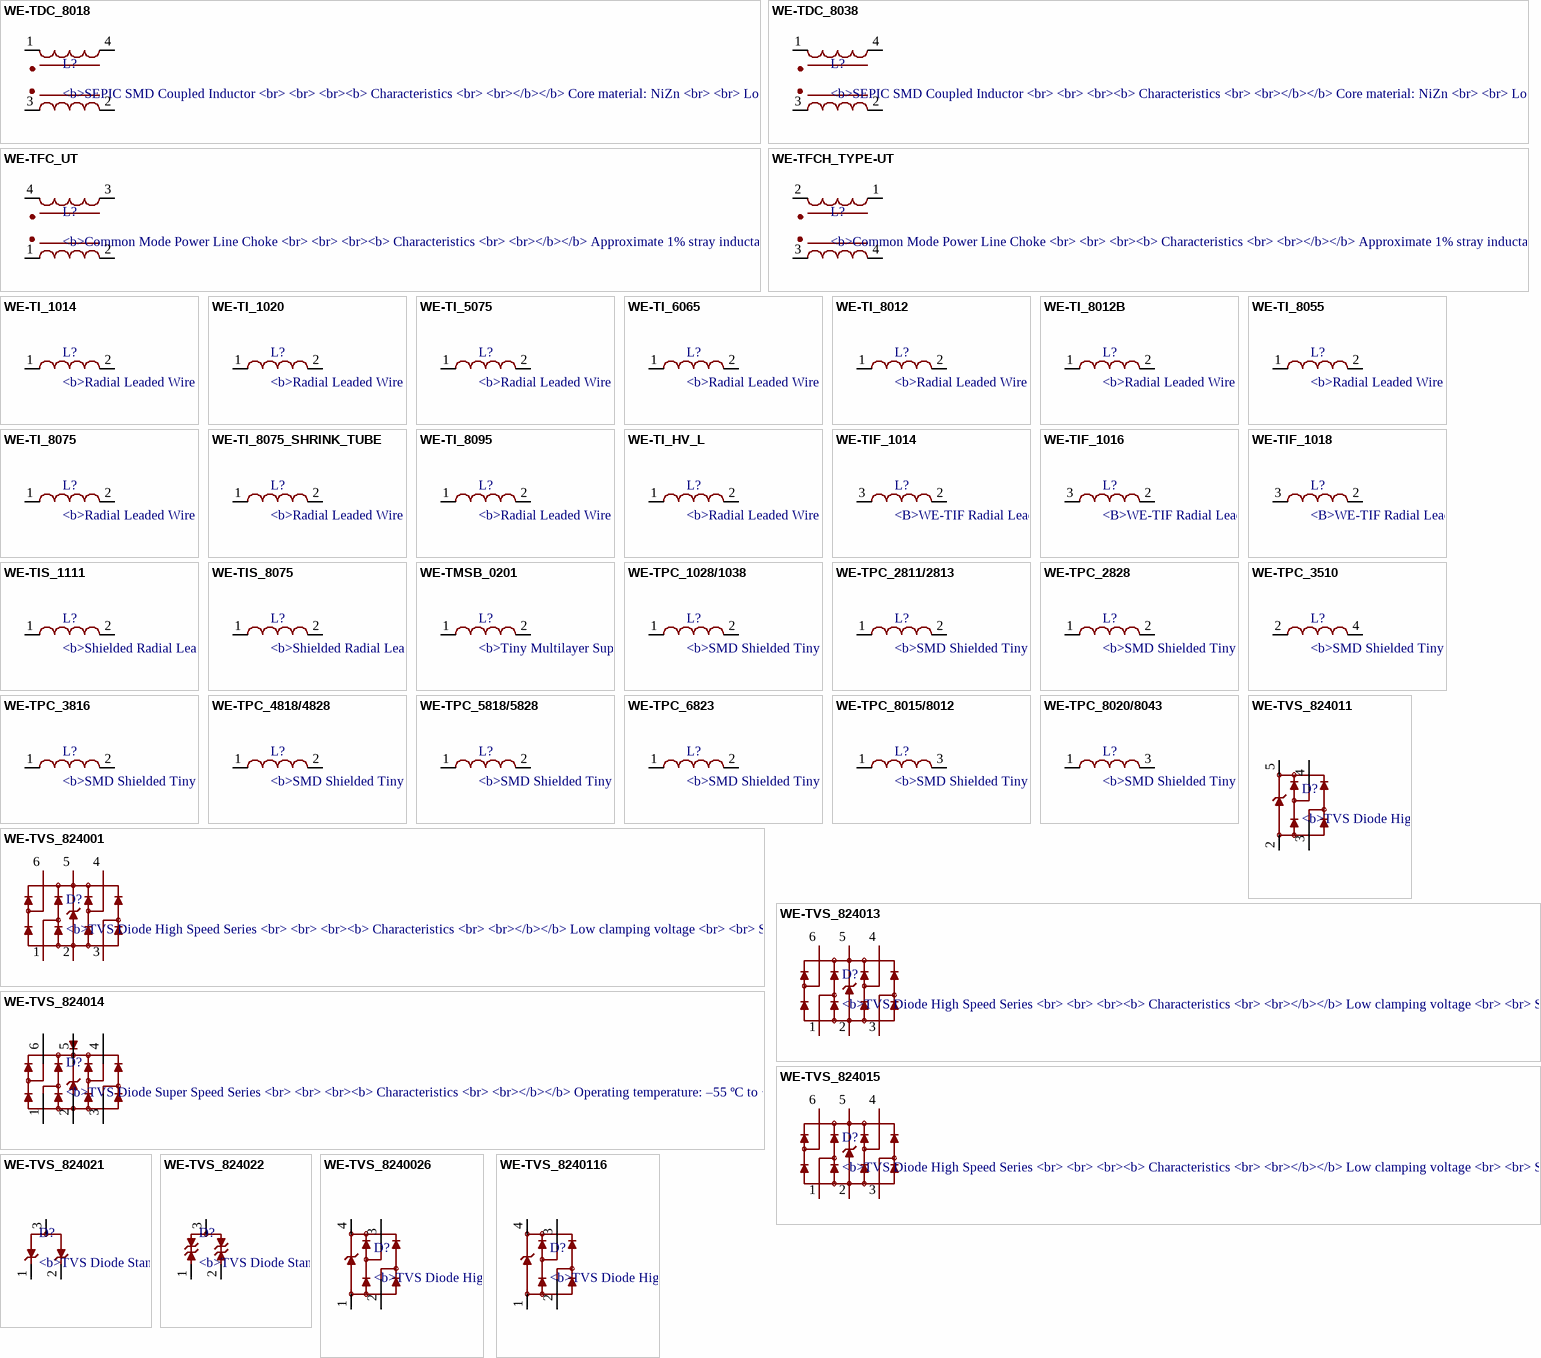
[diagram p46: symbols WE-TDC_8018 to WE-TVS_8240116]

## WE-TDC_8018
designator L?, comment <b>SEPIC SMD Coupled Inductor / <br> / <br> / <br><b> Characteristics / <br> / <br></b></b> Core material: NiZn / <br> / <br> Low profile / <br> / <br> Magnetical shielded which results in a low leakage field / <br> / <br> 8x8 mm case / <br> / <br> 1:1 transformer / <br> / <br> Low self-losses / <br> / <br> High self resonance frequency / <br> / <br> Coupled inductor with two identical windings / <br> / <br> Operating temperature: –40 °C up to +125 °C / <br> / <br> / <br> <b> Applications / <br> / <br></b> Non-isolated flyback converter / <br> / <br> Buck or Boost with AUX winding / <br> / <br> BUCK-BOOST, SEPIC, ZETA & CUK Converter / <br> / <br> Switching regulators with secondary unregulated output voltages / <br> / <br> / <br> / <br><a href="http://katalog.we-online.de/media/images/eisos/IndTDC_pf2.jpg" title="Enlarge picture"> / <img src="http://katalog.we-online.de/media/images/eisos/IndTDC_pf2.jpg" width="320"></a><p> / Details see: <a href="http://katalog.we-online.de/en/pbs/WE-TDC?">http://katalog.we-online.de/en/pbs/WE-TDC?</a><p> / </b>Updated  by  Dan Xu 2014-07-11<br> / </b>2014 (C) Wurth Elektronik
footprint WE-TDC_80XX
pins: 1, 2 3, 3 4, 4 2

## WE-TDC_8038
designator L?, comment <b>SEPIC SMD Coupled Inductor / <br> / <br> / <br><b> Characteristics / <br> / <br></b></b> Core material: NiZn / <br> / <br> Low profile / <br> / <br> Magnetical shielded which results in a low leakage field / <br> / <br> 8x8 mm case / <br> / <br> 1:1 transformer / <br> / <br> Low self-losses / <br> / <br> High self resonance frequency / <br> / <br> Coupled inductor with two identical windings / <br> / <br> Operating temperature: –40 °C up to +125 °C / <br> / <br> / <br> <b> Applications / <br> / <br></b> Non-isolated flyback converter / <br> / <br> Buck or Boost with AUX winding / <br> / <br> BUCK-BOOST, SEPIC, ZETA & CUK Converter / <br> / <br> Switching regulators with secondary unregulated output voltages / <br> / <br> / <br> / <br><a href="http://katalog.we-online.de/media/images/eisos/IndTDC_pf2.jpg" title="Enlarge picture"> / <img src="http://katalog.we-online.de/media/images/eisos/IndTDC_pf2.jpg" width="320"></a><p> / Details see: <a href="http://katalog.we-online.de/en/pbs/WE-TDC?">http://katalog.we-online.de/en/pbs/WE-TDC?</a><p> / </b>Updated  by  Dan Xu 2014-07-11<br> / </b>2014 (C) Wurth Elektronik
footprint WE-TDC_80XX
pins: 1, 2 3, 3 4, 4 2

## WE-TFC_UT
designator L?, comment <b>Common Mode Power Line Choke / <br> / <br> / <br><b> Characteristics / <br> / <br></b></b> Approximate 1% stray inductance for symmetrical interference suppression / <br> / <br> Operating temperature: –40 °C to +125 °C / <br> / <br> / <br><b> Applications / <br> / <br></b> Mains filter / <br> / <br> Suppression of common mode noise / <br> / <br> Compact switch mode power supplies / <br> / <br> Electronic ballast applications (LED bulb) / <br> / <br> Lighting / <br> / <br> White goods / <br> / <br> / <br> / <br><a href="http://katalog.we-online.de/media/images/eisos/IndTFC_MID_pf2.jpg" title="Enlarge picture"> / <img src="http://katalog.we-online.de/media/images/eisos/IndTFC_MID_pf2.jpg" width="320"></a><p> / Details see: <a href="http://katalog.we-online.de/en/pbs/WE-TFC?">http://katalog.we-online.de/en/pbs/WE-TFC?</a><p> / </b>Updated  by  Dan Xu 2014-07-11<br> / </b>2014 (C) Wurth Elektronik
footprint WE-TFC
pins: 1 4, 2 3, 3 2, 4 1

## WE-TFCH_TYPE-UT
designator L?, comment <b>Common Mode Power Line Choke / <br> / <br> / <br><b> Characteristics / <br> / <br></b></b> Approximate 1% stray inductance for symmetrical interference suppression / <br> / <br> Optimized frequency range: 10 kHz to 100 MHz / <br> / <br> Attenuation up to 65 dB / <br> / <br> Inductance tolerance: +50%/–30% / <br> / <br> Operating temperature: –40 °C to +125 °C / <br> / <br> / <br><b> Applications / <br> / <br></b> Mains filter / <br> / <br> Suppression of common mode noise / <br> / <br> Compact switch mode power supplies / <br> / <br> Electronic ballast applications (LED bulb) / <br> / <br> Lighting / <br> / <br> White goods / <br> / <br> / <br> / <br><a href="http://katalog.we-online.de/media/images/eisos/IndTFCH_pf2.jpg" title="Enlarge picture"> / <img src="http://katalog.we-online.de/media/images/eisos/IndTFCH_pf2.jpg" width="320"></a><p> / Details see: <a href="http://katalog.we-online.de/en/pbs/WE-TFCH?">http://katalog.we-online.de/en/pbs/WE-TFCH?</a><p> / </b>Updated  by  Dan Xu 2014-07-11<br> / </b>2014 (C) Wurth Elektronik
MANUFACTURER: Würth Elektronik eiSos GmbH; CREATED-BY: Christin Otto; COMPANY-URL: http://www.we-online.de; CREATED-DATE: MAR 2013; DATASHEET-URL: http://katalog.we-online.de/en/pbs/WE-TFCH?m=t&sq=tfch&sp=&sp=http%3A%2F%2Fwww.we-online.de%2Fweb%2Fen%2Felectronic_components%2Fsearchpage_PBS.php%3Fsearch%3DTFCH
footprint WE-TFCH
pins: 1 2, 2 1, 3 4, 4 3

## WE-TI_1014
designator L?, comment <b>Radial Leaded Wire Wound Inductor / <br> / <br> / <br> <b> Characteristics / <br> / <br></b></b> Radial through-hole inductor / <br> / <br> High saturation core material / <br> / <br> Small size / <br> / <br> Maximum current up to 8.5 A / <br> / <br> Custom design on request / <br> / <br> / <br><b> Applications / <br> / <br></b> Signal filtering / <br> / <br> Switches, switching power supply for small and medium voltage / <br> / <br> Power supply filter / <br> / <br> EMI filter / <br> / <br> / <br> / <br><a href="http://katalog.we-online.de/media/images/eisos/IndTI_pf2.jpg" title="Enlarge picture"> / <img src="http://katalog.we-online.de/media/images/eisos/IndTI_pf2.jpg" width="320"></a><p> / Details see: <a href="http://katalog.we-online.de/en/pbs/WE-TI?">http://katalog.we-online.de/en/pbs/WE-TI?</a><p> / </b>Updated  by  Dan Xu 2014-07-11<br> / </b>2014 (C) Wurth Elektronik
footprint WE-TI_1014
pins: 1, 2

## WE-TI_1020
designator L?, comment <b>Radial Leaded Wire Wound Inductor / <br> / <br> / <br> <b> Characteristics / <br> / <br></b></b> Radial through-hole inductor / <br> / <br> High saturation core material / <br> / <br> Small size / <br> / <br> Maximum current up to 8.5 A / <br> / <br> Custom design on request / <br> / <br> / <br><b> Applications / <br> / <br></b> Signal filtering / <br> / <br> Switches, switching power supply for small and medium voltage / <br> / <br> Power supply filter / <br> / <br> EMI filter / <br> / <br> / <br> / <br><a href="http://katalog.we-online.de/media/images/eisos/IndTI_pf2.jpg" title="Enlarge picture"> / <img src="http://katalog.we-online.de/media/images/eisos/IndTI_pf2.jpg" width="320"></a><p> / Details see: <a href="http://katalog.we-online.de/en/pbs/WE-TI?">http://katalog.we-online.de/en/pbs/WE-TI?</a><p> / </b>Updated  by  Dan Xu 2014-07-11<br> / </b>2014 (C) Wurth Elektronik
footprint WE-TI_1020
pins: 1, 2

## WE-TI_5075
designator L?, comment <b>Radial Leaded Wire Wound Inductor / <br> / <br> / <br> <b> Characteristics / <br> / <br></b></b> Radial through-hole inductor / <br> / <br> High saturation core material / <br> / <br> Small size / <br> / <br> Maximum current up to 8.5 A / <br> / <br> Custom design on request / <br> / <br> / <br><b> Applications / <br> / <br></b> Signal filtering / <br> / <br> Switches, switching power supply for small and medium voltage / <br> / <br> Power supply filter / <br> / <br> EMI filter / <br> / <br> / <br> / <br><a href="http://katalog.we-online.de/media/images/eisos/IndTI_pf2.jpg" title="Enlarge picture"> / <img src="http://katalog.we-online.de/media/images/eisos/IndTI_pf2.jpg" width="320"></a><p> / Details see: <a href="http://katalog.we-online.de/en/pbs/WE-TI?">http://katalog.we-online.de/en/pbs/WE-TI?</a><p> / </b>Updated  by  Dan Xu 2014-07-11<br> / </b>2014 (C) Wurth Elektronik
footprint WE-TI_5075
pins: 1, 2

## WE-TI_6065
designator L?, comment <b>Radial Leaded Wire Wound Inductor / <br> / <br> / <br> <b> Characteristics / <br> / <br></b></b> Radial through-hole inductor / <br> / <br> High saturation core material / <br> / <br> Small size / <br> / <br> Maximum current up to 8.5 A / <br> / <br> Custom design on request / <br> / <br> / <br><b> Applications / <br> / <br></b> Signal filtering / <br> / <br> Switches, switching power supply for small and medium voltage / <br> / <br> Power supply filter / <br> / <br> EMI filter / <br> / <br> / <br> / <br><a href="http://katalog.we-online.de/media/images/eisos/IndTI_pf2.jpg" title="Enlarge picture"> / <img src="http://katalog.we-online.de/media/images/eisos/IndTI_pf2.jpg" width="320"></a><p> / Details see: <a href="http://katalog.we-online.de/en/pbs/WE-TI?">http://katalog.we-online.de/en/pbs/WE-TI?</a><p> / </b>Updated  by  Dan Xu 2014-07-11<br> / </b>2014 (C) Wurth Elektronik
footprint WE-TI_6065
pins: 1, 2

## WE-TI_8012
designator L?, comment <b>Radial Leaded Wire Wound Inductor / <br> / <br> / <br> <b> Characteristics / <br> / <br></b></b> Radial through-hole inductor / <br> / <br> High saturation core material / <br> / <br> Small size / <br> / <br> Maximum current up to 8.5 A / <br> / <br> Custom design on request / <br> / <br> / <br><b> Applications / <br> / <br></b> Signal filtering / <br> / <br> Switches, switching power supply for small and medium voltage / <br> / <br> Power supply filter / <br> / <br> EMI filter / <br> / <br> / <br> / <br><a href="http://katalog.we-online.de/media/images/eisos/IndTI_pf2.jpg" title="Enlarge picture"> / <img src="http://katalog.we-online.de/media/images/eisos/IndTI_pf2.jpg" width="320"></a><p> / Details see: <a href="http://katalog.we-online.de/en/pbs/WE-TI?">http://katalog.we-online.de/en/pbs/WE-TI?</a><p> / </b>Updated  by  Dan Xu 2014-07-11<br> / </b>2014 (C) Wurth Elektronik
footprint WE-TI_8012
pins: 1, 2

## WE-TI_8012B
designator L?, comment <b>Radial Leaded Wire Wound Inductor / <br> / <br> / <br> <b> Characteristics / <br> / <br></b></b> Radial through-hole inductor / <br> / <br> High saturation core material / <br> / <br> Small size / <br> / <br> Maximum current up to 8.5 A / <br> / <br> Custom design on request / <br> / <br> / <br><b> Applications / <br> / <br></b> Signal filtering / <br> / <br> Switches, switching power supply for small and medium voltage / <br> / <br> Power supply filter / <br> / <br> EMI filter / <br> / <br> / <br> / <br><a href="http://katalog.we-online.de/media/images/eisos/IndTI_pf2.jpg" title="Enlarge picture"> / <img src="http://katalog.we-online.de/media/images/eisos/IndTI_pf2.jpg" width="320"></a><p> / Details see: <a href="http://katalog.we-online.de/en/pbs/WE-TI?">http://katalog.we-online.de/en/pbs/WE-TI?</a><p> / </b>Updated  by  Dan Xu 2014-07-11<br> / </b>2014 (C) Wurth Elektronik
footprint WE-TI_8012B
pins: 1, 2

## WE-TI_8055
designator L?, comment <b>Radial Leaded Wire Wound Inductor / <br> / <br> / <br> <b> Characteristics / <br> / <br></b></b> Radial through-hole inductor / <br> / <br> High saturation core material / <br> / <br> Small size / <br> / <br> Maximum current up to 8.5 A / <br> / <br> Custom design on request / <br> / <br> / <br><b> Applications / <br> / <br></b> Signal filtering / <br> / <br> Switches, switching power supply for small and medium voltage / <br> / <br> Power supply filter / <br> / <br> EMI filter / <br> / <br> / <br> / <br><a href="http://katalog.we-online.de/media/images/eisos/IndTI_pf2.jpg" title="Enlarge picture"> / <img src="http://katalog.we-online.de/media/images/eisos/IndTI_pf2.jpg" width="320"></a><p> / Details see: <a href="http://katalog.we-online.de/en/pbs/WE-TI?">http://katalog.we-online.de/en/pbs/WE-TI?</a><p> / </b>Updated  by  Dan Xu 2014-07-11<br> / </b>2014 (C) Wurth Elektronik
footprint WE-TI_8055
pins: 1, 2

## WE-TI_8075
designator L?, comment <b>Radial Leaded Wire Wound Inductor / <br> / <br> / <br> <b> Characteristics / <br> / <br></b></b> Radial through-hole inductor / <br> / <br> High saturation core material / <br> / <br> Small size / <br> / <br> Maximum current up to 8.5 A / <br> / <br> Custom design on request / <br> / <br> / <br><b> Applications / <br> / <br></b> Signal filtering / <br> / <br> Switches, switching power supply for small and medium voltage / <br> / <br> Power supply filter / <br> / <br> EMI filter / <br> / <br> / <br> / <br><a href="http://katalog.we-online.de/media/images/eisos/IndTI_pf2.jpg" title="Enlarge picture"> / <img src="http://katalog.we-online.de/media/images/eisos/IndTI_pf2.jpg" width="320"></a><p> / Details see: <a href="http://katalog.we-online.de/en/pbs/WE-TI?">http://katalog.we-online.de/en/pbs/WE-TI?</a><p> / </b>Updated  by  Dan Xu 2014-07-11<br> / </b>2014 (C) Wurth Elektronik
footprint WE-TI_8075
pins: 1, 2

## WE-TI_8075_SHRINK_TUBE
designator L?, comment <b>Radial Leaded Wire Wound Inductor / <br> / <br> / <br> <b> Characteristics / <br> / <br></b></b> Radial through-hole inductor / <br> / <br> High saturation core material / <br> / <br> Small size / <br> / <br> Maximum current up to 8.5 A / <br> / <br> Custom design on request / <br> / <br> / <br><b> Applications / <br> / <br></b> Signal filtering / <br> / <br> Switches, switching power supply for small and medium voltage / <br> / <br> Power supply filter / <br> / <br> EMI filter / <br> / <br> / <br> / <br><a href="http://katalog.we-online.de/media/images/eisos/IndTI_pf2.jpg" title="Enlarge picture"> / <img src="http://katalog.we-online.de/media/images/eisos/IndTI_pf2.jpg" width="320"></a><p> / Details see: <a href="http://katalog.we-online.de/en/pbs/WE-TI?">http://katalog.we-online.de/en/pbs/WE-TI?</a><p> / </b>Updated  by  Dan Xu 2014-07-11<br> / </b>2014 (C) Wurth Elektronik
footprint WE-TI_8075_SHRINKTUBE
pins: 1, 2

## WE-TI_8095
designator L?, comment <b>Radial Leaded Wire Wound Inductor / <br> / <br> / <br> <b> Characteristics / <br> / <br></b></b> Radial through-hole inductor / <br> / <br> High saturation core material / <br> / <br> Small size / <br> / <br> Maximum current up to 8.5 A / <br> / <br> Custom design on request / <br> / <br> / <br><b> Applications / <br> / <br></b> Signal filtering / <br> / <br> Switches, switching power supply for small and medium voltage / <br> / <br> Power supply filter / <br> / <br> EMI filter / <br> / <br> / <br> / <br><a href="http://katalog.we-online.de/media/images/eisos/IndTI_pf2.jpg" title="Enlarge picture"> / <img src="http://katalog.we-online.de/media/images/eisos/IndTI_pf2.jpg" width="320"></a><p> / Details see: <a href="http://katalog.we-online.de/en/pbs/WE-TI?">http://katalog.we-online.de/en/pbs/WE-TI?</a><p> / </b>Updated  by  Dan Xu 2014-07-11<br> / </b>2014 (C) Wurth Elektronik
footprint WE-TI_8095
pins: 1, 2

## WE-TI_HV_L
designator L?, comment <b>Radial Leaded Wire Wound Inductor / <br> / <br> / <br><br> Characteristics / <br> / <br></b></b> Radial through-hole inductor / <br> / <br> High saturation core material / <br> / <br> Unshielded construction / <br> / <br> Designed for 400 VDC / <br> / <br> / <br><b> Applications / <br> / <br></b> Non-isolated buck or buck-boost converter like Power Integrations LinkSwitch-TN / <br> / <br> Constant current LED driver / <br> / <br> Utility metering / <br> / <br> Filter for power supply / <br> / <br> / <br> / <br><a href="http://katalog.we-online.de/media/images/eisos/IndTIHV_pf2.jpg" title="Enlarge picture"> / <img src="http://katalog.we-online.de/media/images/eisos/IndTIHV_pf2.jpg" width="320"></a><p> / Details see: <a href="http://katalog.we-online.de/en/pbs/WE-TI_HV?">http://katalog.we-online.de/en/pbs/WE-TI_HV?</a><p> / </b>Updated  by  Dan Xu 2014-07-11<br> / </b>2014 (C) Wurth Elektronik
footprint WE-TI_8095
pins: 1, 2